# Altium footprint library TBP02R1-381-02BE.PcbLib: 2 footprints
Each footprint in its own frame and in the unit in brackets; x right, y up, seen from the top. Pads: shape width x height; smd on the part's side, far side on the other; paste and mask are expansions set on the pad; w line width, h text height; cw(c..) or ccw(c..) is an arc to the next point about the centre after c.
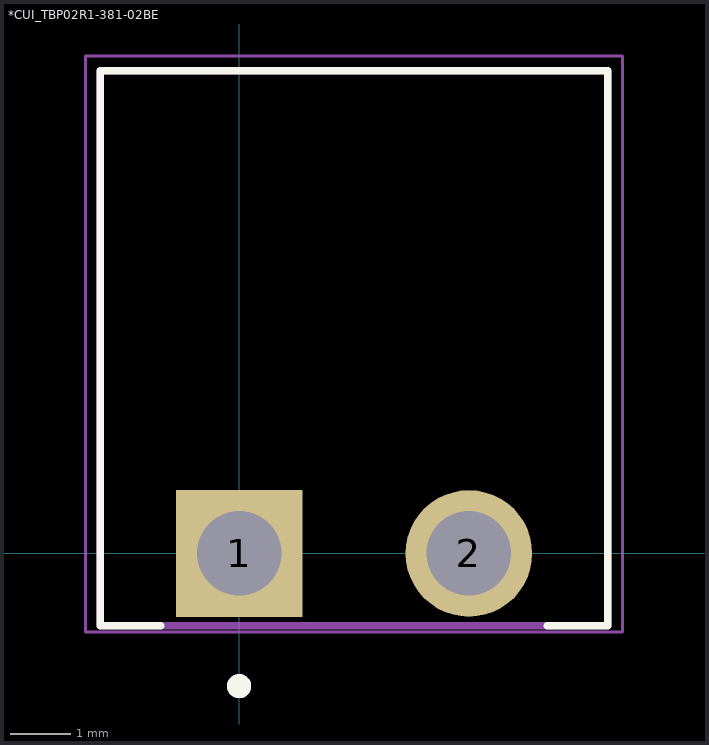
[diagram p0: the footprints below, top view; thin cyan lines are the x and y axes]

## *CUI_TBP02R1-381-02BE [mm]
pads (2):
  rect 2.1x2.1 hole 1.4: 1(0,0)
  round 2.1 hole 1.4: 2(3.81,0)
Top Overlay:
  circle w0.2: c0,-2.2 r0.1
  lines w0.127: -1.3,-1.2 -2.3,-1.2 -2.3,8 6.11,8 6.11,-1.2 5.11,-1.2
Mechanical 13:
  circle w0.2: c0,-2.2 r0.1
  circle w0.2: c0,-2.2 r0.1
  lines w0.127: -2.3,-1.2 -2.3,8 ; -2.3,-1.2 6.11,-1.2 ; -2.3,-1.2 -2.3,8 ; -2.3,-1.2 6.11,-1.2 ; -2.3,8 6.11,8 ; -2.3,8 6.11,8 ; 6.11,-1.2 6.11,8 ; 6.11,-1.2 6.11,8
Mechanical 15:
  lines w0.05: -2.55,-1.3 6.36,-1.3 6.36,8.25 -2.55,8.25 -2.55,-1.3
3D body "CUI_DEVICES_TBP02R1-381-02BE.step": height 7.2, standoff -3.5, extent -2.3,-1.2 6.11,8

## PCBComponent_1 [mm]